# Altium footprint library BatteruPSU.PcbLib: 42 footprints (part 3 of 3)
Each footprint in its own frame and in the unit in brackets; x right, y up, seen from the top. Pads: shape width x height; smd on the part's side, far side on the other; paste and mask are expansions set on the pad; w line width, h text height; cw(c..) or ccw(c..) is an arc to the next point about the centre after c.
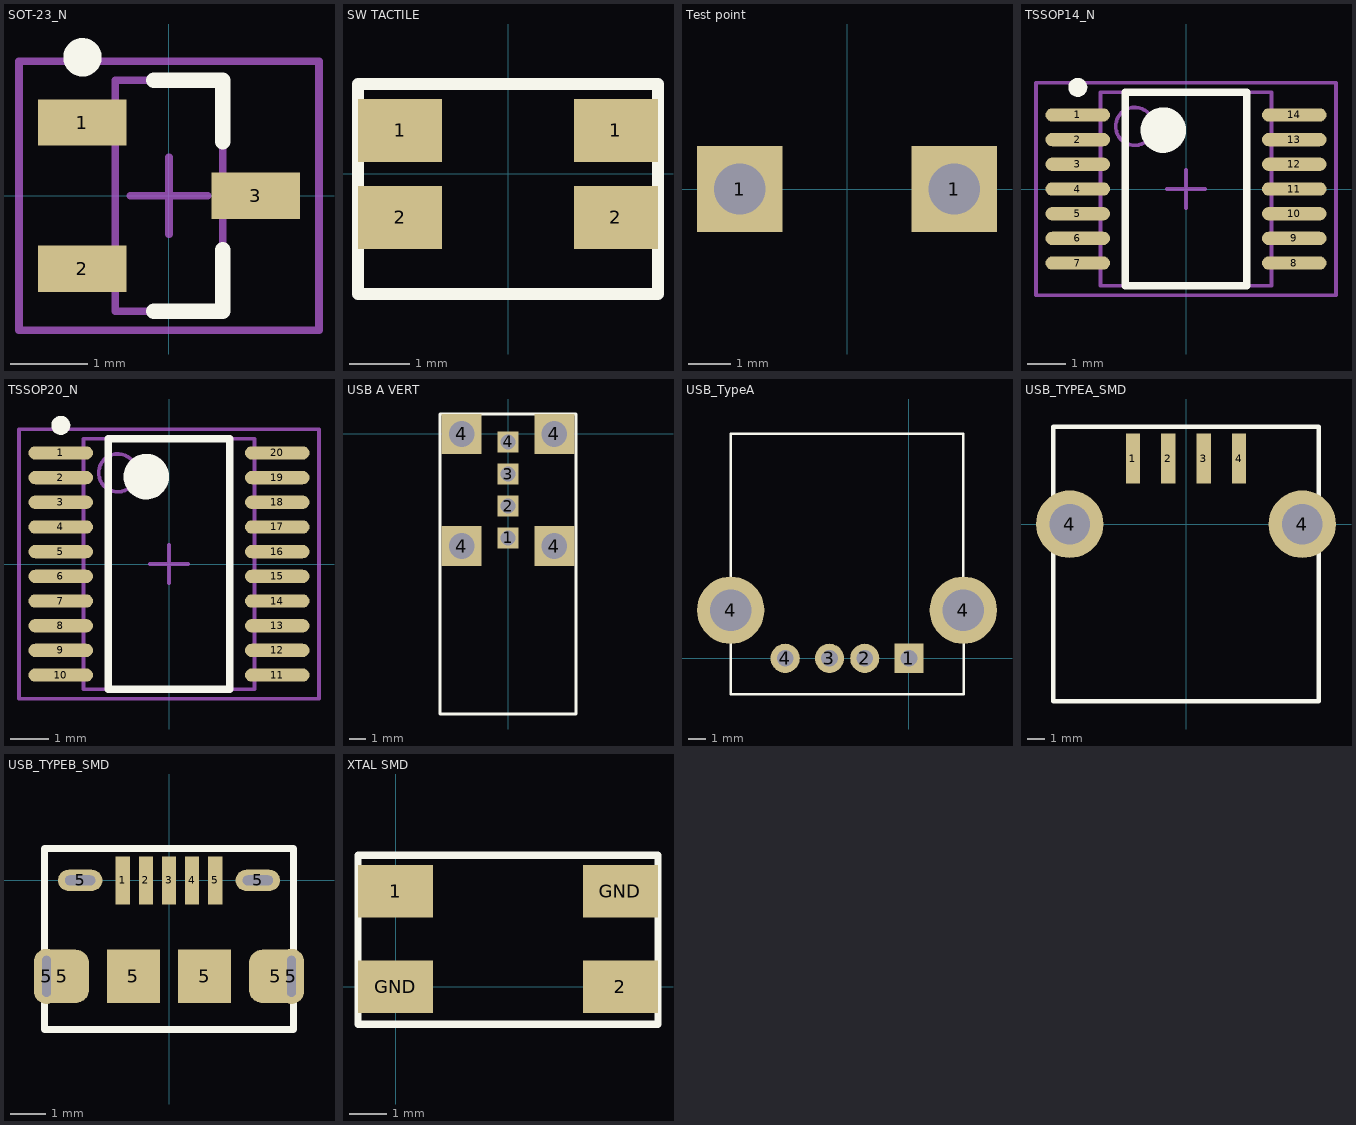
[diagram p2: the footprints below, top view; thin cyan lines are the x and y axes]

## SOT-23_N [mm] "SOT23, 3-Leads, Body 2.9x1.3mm, Pitch 0.95mm, Lead Span 2.5mm, IPC Medium Density"
height 1.1
pads (3):
  rect 1.15x0.6 smd: 1(-1.125,0.95) 2(-1.125,-0.95) 3(1.125,0)
Top Overlay:
  circle w0.25: c-1.125,1.8 r0.125
  lines w0.2: -0.2,-1.5 0.7,-1.5 0.7,-0.7 ; -0.2,1.5 0.7,1.5 0.7,0.7
Mechanical 13:
  lines w0.1: -0.7,-1.5 -0.7,1.5 0.7,1.5 0.7,-1.5 -0.7,-1.5
Mechanical 15:
  lines w0.1: -0.5,0 0.5,0 ; 0,-0.5 0,0.5 ; -1.95,-1.75 -1.95,1.75 1.95,1.75 1.95,-1.75 -1.95,-1.75
3D body: height 1.3, standoff 0, extent -1.4,-1.45 1.4,1.45

## SW TACTILE [mm] "Panasonic EVQ-P7J01P SMD horisontal"
pads (4):
  rect 1.4x1.05 smd: 1(-1.8,0.725) 1(1.8,0.725) 2(-1.8,-0.725) 2(1.8,-0.725)
Top Overlay:
  lines w0.2: -2.5,-2 -2.5,1.5 2.5,1.5 2.5,-2 -2.5,-2
3D body: height 1.35, standoff 0, extent -2.35,-2.1 2.35,1.45

## Test point [mm]
pads (2):
  rect 2x2 hole 1.2: 1(-2.5,0) 1(2.5,0)
3D body: height 5.55, standoff -0.5, extent -3.05,-0.55 3.05,0.55

## TSSOP14_N [mm] "TSOP, 14-Leads, Body 5x4.4mm, Pitch 0.65mm, IPC Medium Density"
height 1.1
pads (14):
  oval 1.7x0.35 smd: 1(-2.85,1.95) 2(-2.85,1.3) 3(-2.85,0.65) 4(-2.85,0) 5(-2.85,-0.65) 6(-2.85,-1.3) 7(-2.85,-1.95) 8(2.85,-1.95) 9(2.85,-1.3) 10(2.85,-0.65) 11(2.85,0) 12(2.85,0.65) 13(2.85,1.3) 14(2.85,1.95)
Top Overlay:
  circle w0.25: c-2.85,2.675 r0.125
  circle w0.6: c-0.6,1.55 r0.3
  lines w0.2: -1.6,-2.55 -1.6,2.55 1.6,2.55 1.6,-2.55 -1.6,-2.55
Mechanical 13:
  circle w0.1: c-1.35,1.65 r0.5
  lines w0.1: -2.25,-2.55 -2.25,2.55 2.25,2.55 2.25,-2.55 -2.25,-2.55
Mechanical 15:
  lines w0.1: -0.5,0 0.5,0 ; 0,-0.5 0,0.5 ; -3.95,-2.8 -3.95,2.8 3.95,2.8 3.95,-2.8 -3.95,-2.8
3D body: height 1.63, standoff -0.18, extent -3,-2.5 3,2.5

## TSSOP20_N [mm] "TSOP, 20-Leads, Body 6.5x4.4mm, Pitch 0.65mm, IPC Medium Density"
height 1.1
pads (20):
  oval 1.7x0.35 smd: 1(-2.85,2.925) 2(-2.85,2.275) 3(-2.85,1.625) 4(-2.85,0.975) 5(-2.85,0.325) 6(-2.85,-0.325) 7(-2.85,-0.975) 8(-2.85,-1.625) 9(-2.85,-2.275) 10(-2.85,-2.925) 11(2.85,-2.925) 12(2.85,-2.275) 13(2.85,-1.625) 14(2.85,-0.975) 15(2.85,-0.325) 16(2.85,0.325) 17(2.85,0.975) 18(2.85,1.625) 19(2.85,2.275) 20(2.85,2.925)
Top Overlay:
  circle w0.6: c-0.6,2.3 r0.3
  circle w0.25: c-2.85,3.65 r0.125
  lines w0.2: -1.6,-3.3 1.6,-3.3 1.6,3.3 -1.6,3.3 -1.6,-3.3
Mechanical 13:
  circle w0.1: c-1.35,2.4 r0.5
  lines w0.1: -2.25,-3.3 2.25,-3.3 2.25,3.3 -2.25,3.3 -2.25,-3.3
Mechanical 15:
  lines w0.1: -0.5,0 0.5,0 ; 0,-0.5 0,0.5 ; -3.95,-3.55 3.95,-3.55 3.95,3.55 -3.95,3.55 -3.95,-3.55
3D body: height 1.19, standoff -0.01, extent -3.275,-3.3 3.275,3.3

## USB A VERT [mm] "USB TYPE A RIGHT ANGLE VERTICAL"
pads (8):
  rect 1.3x1.3 hole 0.92: 1(0,-6.5) 2(0,-4.5) 3(0,-2.5) 4(0,-0.5)
  rect 2.5x2.5 hole 1.6: 4(-2.9,-7) 4(-2.9,0) 4(2.9,-7) 4(2.9,0)
Top Overlay:
  lines w0.2: -4.25,-17.5 4.25,-17.5 4.25,1.25 -4.25,1.25 -4.25,-17.5
3D body: height 14.25, standoff -4.16, extent -3.598,-18.5 3.6,0.7

## USB_TypeA [mil]
pads (6):
  rect 65x65 hole 37: 1(0,0)
  round 65 hole 37: 2(-98.5,0) 3(-177,0) 4(-275.6,0)
  round 150 hole 93: 4(-397,107) 4(121,107)
Top Overlay:
  lines w6: 121,107 121,500 -397,500 -397,107 -397,-80 122,-80 122,107
3D body: height 274.23, standoff -164.75, extent -449.02,-45 173.03,494.37

## USB_TYPEA_SMD [mm] "USB TYPE A RE. SMD"
height 5
pads (6):
  rect 0.8x2.82 smd: 1(-3,3.71) 2(-1,3.71) 3(1,3.71) 4(3,3.71)
  round 3.81 hole 2.3: 4(-6.57,0) 4(6.57,0)
Top Overlay:
  lines w0.254: -7.5,-10 7.5,-10 7.5,5.5 -7.5,5.5 -7.5,-10
3D body: height 7.75, standoff -2.62, extent -7.25,-9.8 7.25,5.083

## USB_TYPEB_SMD [mm] "USB TYPE B SMD MICRO"
pads (13):
  rect 0.4x1.35 smd: 1(-1.3,0) 2(-0.65,0) 3(0,0) 4(0.65,0) 5(1.3,0)
  oval 0.7x1.55 hole 0.25 slot 1.15 at 90 deg: 5(-3.445,-2.7) 5(3.445,-2.7)
  rrect50% 1.5x1.5 smd: 5(-3,-2.7) 5(3,-2.7)
  oval 1.25x0.6 hole 0.275 slot 0.85 at 0 deg: 5(-2.5,0) 5(2.5,0)
  rect 1.5x1.5 smd: 5(-1,-2.7) 5(1,-2.7)
Top Overlay:
  lines w0.2: -3.5,-4.2 3.5,-4.2 3.5,0.9 -3.5,0.9 -3.5,-4.2
3D body: height 2.73, standoff -0.55, extent -4,-5.49 4.05,0.09

## XTAL SMD [mm] "CSM-8Q SMD crystal"
height 1
pads (4):
  rect 2x1.4 smd: 1(0,2.54) 2(6,0) GND(0,0) GND(6,2.54)
Top Overlay:
  lines w0.2: -1,-1 -1,3.5 7,3.5 7,-1 -1,-1
3D body: height 1.1, standoff -0.01, extent 0,-0.5 6,3